# EAGLE library part CY8C27443-24* (library cypress_psoc)
PSoC Mixed-Signal Array CY8C27443-24PXI (DIP) CY8C27443-24SXI (SOIC) CY8C27443-24PVXI (SSOP)
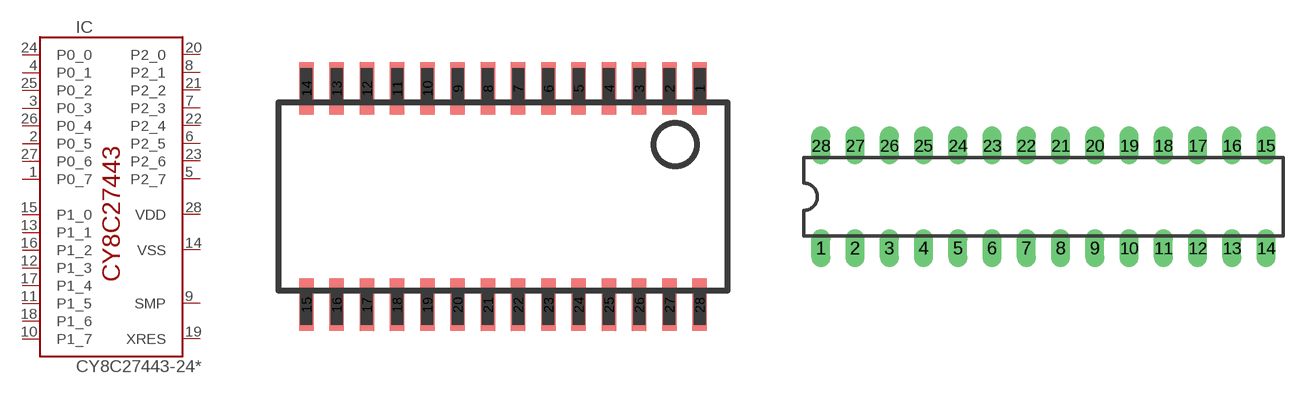
[diagram p0: symbol with the pads of SOIC28; footprints SOIC28, PDIP28]

Designator prefix IC

## CY8C27443-24SXI  [SOIC28]
1  P0_7
2  P0_5
3  P0_3
4  P0_1
5  P2_7
6  P2_5
7  P2_3
8  P2_1
9  SMP
10  P1_7
11  P1_5
12  P1_3
13  P1_1
14  VSS  pwr
15  P1_0
16  P1_2
17  P1_4
18  P1_6
19  XRES
20  P2_0
21  P2_2
22  P2_4
23  P2_6
24  P0_0
25  P0_2
26  P0_4
27  P0_6
28  VDD  pwr

## CY8C27443-24PVI  [PDIP28]
Pads as for SOIC28

## CY8C27443-24PVXI  [SSOP28]
Pads as for SOIC28

## Footprint SOIC28 (pad centres in mm)
Small Outline Integrated Circuit with 28 pins (same as Small Outline Package)
smd 0.6 x 2.2: 1 8.89,4.548; 2 7.62,4.548; 3 6.35,4.548; 4 5.08,4.548; 5 3.81,4.548; 6 2.54,4.548; 7 1.27,4.548; 8 0,4.548; 9 -1.27,4.548; 10 -2.54,4.548; 11 -3.81,4.548; 12 -5.08,4.548; 13 -6.35,4.548; 14 -7.62,4.548; 15 -7.62,-4.548; 16 -6.35,-4.548; 17 -5.08,-4.548; 18 -3.81,-4.548; 19 -2.54,-4.548; 20 -1.27,-4.548; 21 0,-4.548; 22 1.27,-4.548; 23 2.54,-4.548; 24 3.81,-4.548; 25 5.08,-4.548; 26 6.35,-4.548; 27 7.62,-4.548; 28 8.89,-4.548

## Footprint PDIP28 (pad centres in mm)
Plastic Dual Inline Package with 28 pins
drill 0.889 long: 1 -16.51,-3.81; 2 -13.97,-3.81; 3 -11.43,-3.81; 4 -8.89,-3.81; 5 -6.35,-3.81; 6 -3.81,-3.81; 7 -1.27,-3.81; 8 1.27,-3.81; 9 3.81,-3.81; 10 6.35,-3.81; 11 8.89,-3.81; 12 11.43,-3.81; 13 13.97,-3.81; 14 16.51,-3.81; 15 16.51,3.81; 16 13.97,3.81; 17 11.43,3.81; 18 8.89,3.81; 19 6.35,3.81; 20 3.81,3.81; 21 1.27,3.81; 22 -1.27,3.81; 23 -3.81,3.81; 24 -6.35,3.81; 25 -8.89,3.81; 26 -11.43,3.81; 27 -13.97,3.81; 28 -16.51,3.81

## Footprint SSOP28 (pad centres in mm)
Shrink Small Outline Package: SSOP-28
smd 0.3 x 1.5: 1 -4.225,-3.625; 2 -3.575,-3.625; 3 -2.925,-3.625; 4 -2.275,-3.625; 5 -1.625,-3.625; 6 -0.975,-3.625; 7 -0.325,-3.625; 8 0.325,-3.625; 9 0.975,-3.625; 10 1.625,-3.625; 11 2.275,-3.625; 12 2.925,-3.625; 13 3.575,-3.625; 14 4.225,-3.625; 15 4.225,3.625; 16 3.575,3.625; 17 2.925,3.625; 18 2.275,3.625; 19 1.625,3.625; 20 0.975,3.625; 21 0.325,3.625; 22 -0.325,3.625; 23 -0.975,3.625; 24 -1.625,3.625; 25 -2.275,3.625; 26 -2.925,3.625; 27 -3.575,3.625; 28 -4.225,3.625